# EAGLE library part 4X2 (library pixel)
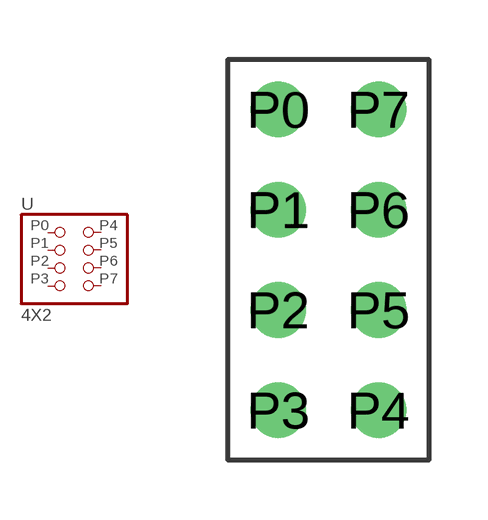
[diagram p19: symbol with the pads of 4X2; footprint 4X2]

Designator prefix -

## 4X2  [4X2]
P0  P0  pas
P1  P1  pas
P2  P2  pas
P3  P3  pas
P4  P4  pas
P5  P5  pas
P6  P6  pas
P7  P7  pas

## Footprint 4X2 (pad centres in mm)
drill 0.9 pad 1.27: P0 -1.27,3.81; P1 -1.27,1.27; P2 -1.27,-1.27; P3 -1.27,-3.81; P4 1.27,-3.81; P5 1.27,-1.27; P6 1.27,1.27; P7 1.27,3.81